# Altium schematic symbol library Q_PFET_DUAL_6PIN_A.SchLib: 1 symbol
Pins are listed as number, name and electrical type; pins without a type are passive.

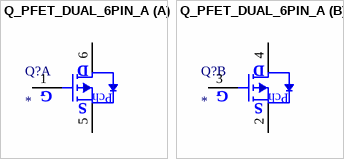
[diagram p0: symbol Q_PFET_DUAL_6PIN_A]

## Q_PFET_DUAL_6PIN_A
designator Q?
part A pins: 1 (power) "Gate", 5 (power) "SOURCE", 6 (power) "DRAIN"
part B pins: 2 (power) "SOURCE", 3 (power) "GATE", 4 (power) "DRAIN"
part A text: D; G; Pch; S
part B text: D; G; Pch; S